# EAGLE library part LT6011CMS8#PBF (library IC_Linear)
Dual/Quad 135µA, 14nV/√Hz, Rail-to-Rail Output Precision Op Amp Datasheet <https://www.analog.com/media/en/technical-documentation/data-sheets/60112fc.pdf>
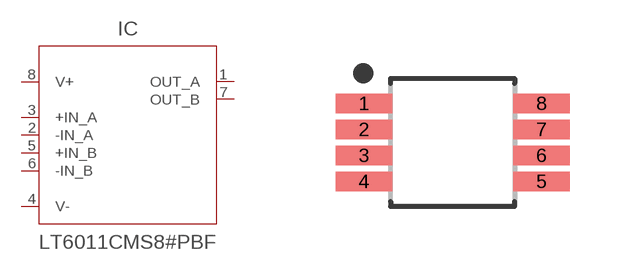
[diagram p23: symbol with the pads of SOP65P490X110-8N; footprint SOP65P490X110-8N]

Designator prefix IC

## LT6011CMS8#PBF_MSOP (CATEGORY: Precision Amplifiers; DESCRIPTION: Precision Amplifiers 2x/4x 135 A, 14nV/rtHz, R2R Out Prec Op; MANUFACTURER: Linear Technology; MPN: LT6011CMS8#PBF; OPERATING_TEMP: 0 to +70 °C; PART_STATUS: Active; ROHS_COMPLIANT: RoHS3 Compliant; SERIES: LT6011; SUB-CATEGORY: Amplifier ICs; SUB_CATEGORY: Op-Amp; VALUE: LT6011)  [SOP65P490X110-8N]
1  OUT_A  out
2  -IN_A  in
3  +IN_A  in
4  V-  pwr
5  +IN_B  in
6  -IN_B  in
7  OUT_B  out
8  V+  pwr

## Footprint SOP65P490X110-8N (pad centres in mm)
8-SOP, 0.65 mm pitch, 4.90 mm span, 3.00 X 2.95 X 1.10 mm body 8-pin SOP package with 0.65 mm pitch, 4.90 mm span with body size 3.00 X 2.95 X 1.10 mm
smd 1.424 x 0.492: 1 -2.219,0.975; 2 -2.219,0.325; 3 -2.219,-0.325; 4 -2.219,-0.975; 5 2.219,-0.975; 6 2.219,-0.325; 7 2.219,0.325; 8 2.219,0.975